# EAGLE library part LTC2227 (library ltc22xx)
12-Bit, 40Msps Low Power 3V ADC
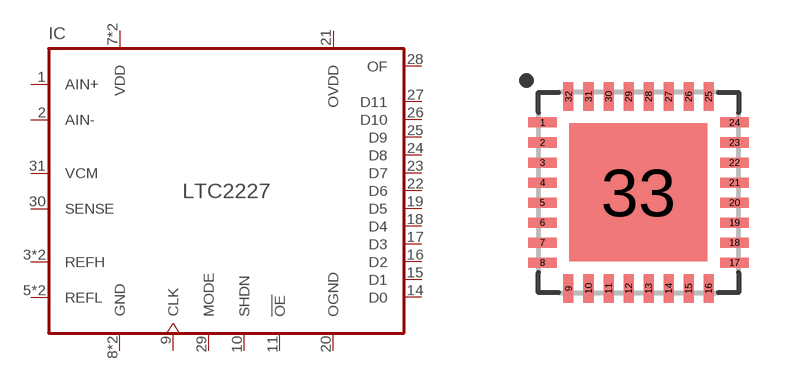
[diagram p0: symbol with the pads of QFN32; footprint QFN32]

Designator prefix IC

## LTC2227  [QFN32]
1  AIN+  in
2  AIN-  in
3  REFH  pas
4  REFH  pas
5  REFL  pas
6  REFL  pas
7  VDD  pwr
8  GND  pwr
9  CLK  in
10  SHDN  in
11  !OE  in
14  D0  out
15  D1  out
16  D2  out
17  D3  out
18  D4  out
19  D5  out
20  OGND  pwr
21  OVDD  pwr
22  D6  out
23  D7  out
24  D8  out
25  D9  out
26  D10  out
27  D11  out
28  OF  out
29  MODE  in
30  SENSE  in
31  VCM  pas
32  VDD  pwr
33  GND  pwr

## Footprint QFN32 (pad centres in mm)
32-Lead Plastic QFN (5mm × 5mm)
smd 0.7 x 0.25: 1 -2.4,1.75; 2 -2.4,1.25; 3 -2.4,0.75; 4 -2.4,0.25; 5 -2.4,-0.25; 6 -2.4,-0.75; 7 -2.4,-1.25; 8 -2.4,-1.75; 17 2.4,-1.75; 18 2.4,-1.25; 19 2.4,-0.75; 20 2.4,-0.25; 21 2.4,0.25; 22 2.4,0.75; 23 2.4,1.25; 24 2.4,1.75
smd 0.25 x 0.7: 9 -1.75,-2.4; 10 -1.25,-2.4; 11 -0.75,-2.4; 12 -0.25,-2.4; 13 0.25,-2.4; 14 0.75,-2.4; 15 1.25,-2.4; 16 1.75,-2.4; 25 1.75,2.4; 26 1.25,2.4; 27 0.75,2.4; 28 0.25,2.4; 29 -0.25,2.4; 30 -0.75,2.4; 31 -1.25,2.4; 32 -1.75,2.4
smd 3.45 x 3.45: 33 0,0